# Altium schematic symbol library LTC1155.SchLib: 1 symbol
Pins are listed as number, name and electrical type; pins without a type are passive.

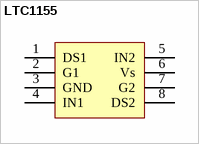
[diagram p0: symbol LTC1155]

## LTC1155
designator U?  (value not drawn)
IC Driver MOSFET Highside
pins: 1 DS1, 2 G1, 3 GND, 4 IN1, 5 IN2, 6 Vs, 7 G2, 8 DS2
1 alternate drawing of the same symbol